# EAGLE library part PINHD-3X4 (library pinhead)
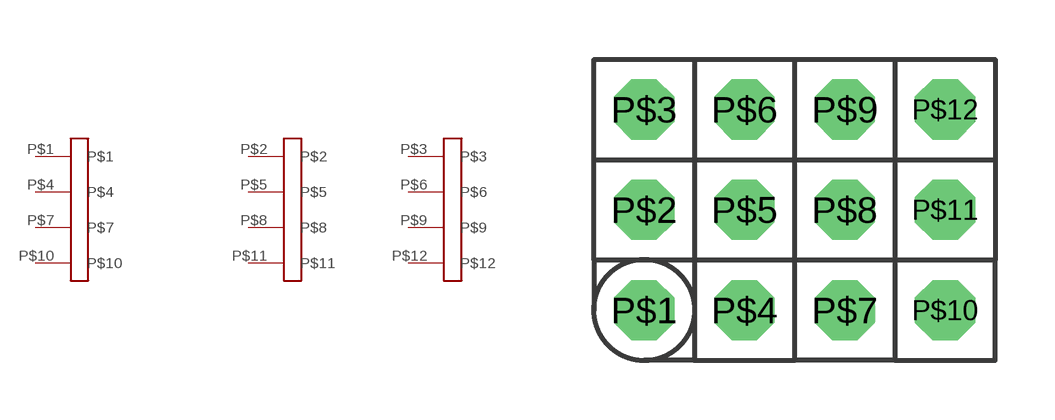
[diagram p44: symbol with the pads of 3X04; footprint 3X04]

Designator prefix J

## PINHD-3X4  [3X04]
P$1  P$1
P$2  P$2
P$3  P$3
P$4  P$4
P$5  P$5
P$6  P$6
P$7  P$7
P$8  P$8
P$9  P$9
P$10  P$10
P$11  P$11
P$12  P$12

## Footprint 3X04 (pad centres in mm)
drill 1.016 octagon: P$1 -5.08,-2.54; P$2 -5.08,0; P$3 -5.08,2.54; P$4 -2.54,-2.54; P$5 -2.54,0; P$6 -2.54,2.54; P$7 0,-2.54; P$8 0,0; P$9 0,2.54; P$10 2.54,-2.54; P$11 2.54,0; P$12 2.54,2.54